# Altium schematic symbol library SCH - POWER - MURATA - MEA1D2415SC.SCHLIB: 1 symbol
Pins are listed as number, name and electrical type; pins without a type are passive.

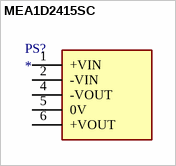
[diagram p0: symbol MEA1D2415SC]

## MEA1D2415SC
designator PS?
Power Supply
pins: 1 +VIN, 2 -VIN, 4 -VOUT, 5 0V, 6 +VOUT